# Altium schematic symbol library BRT_Components.SchLib: 323 symbols (part 2 of 4)
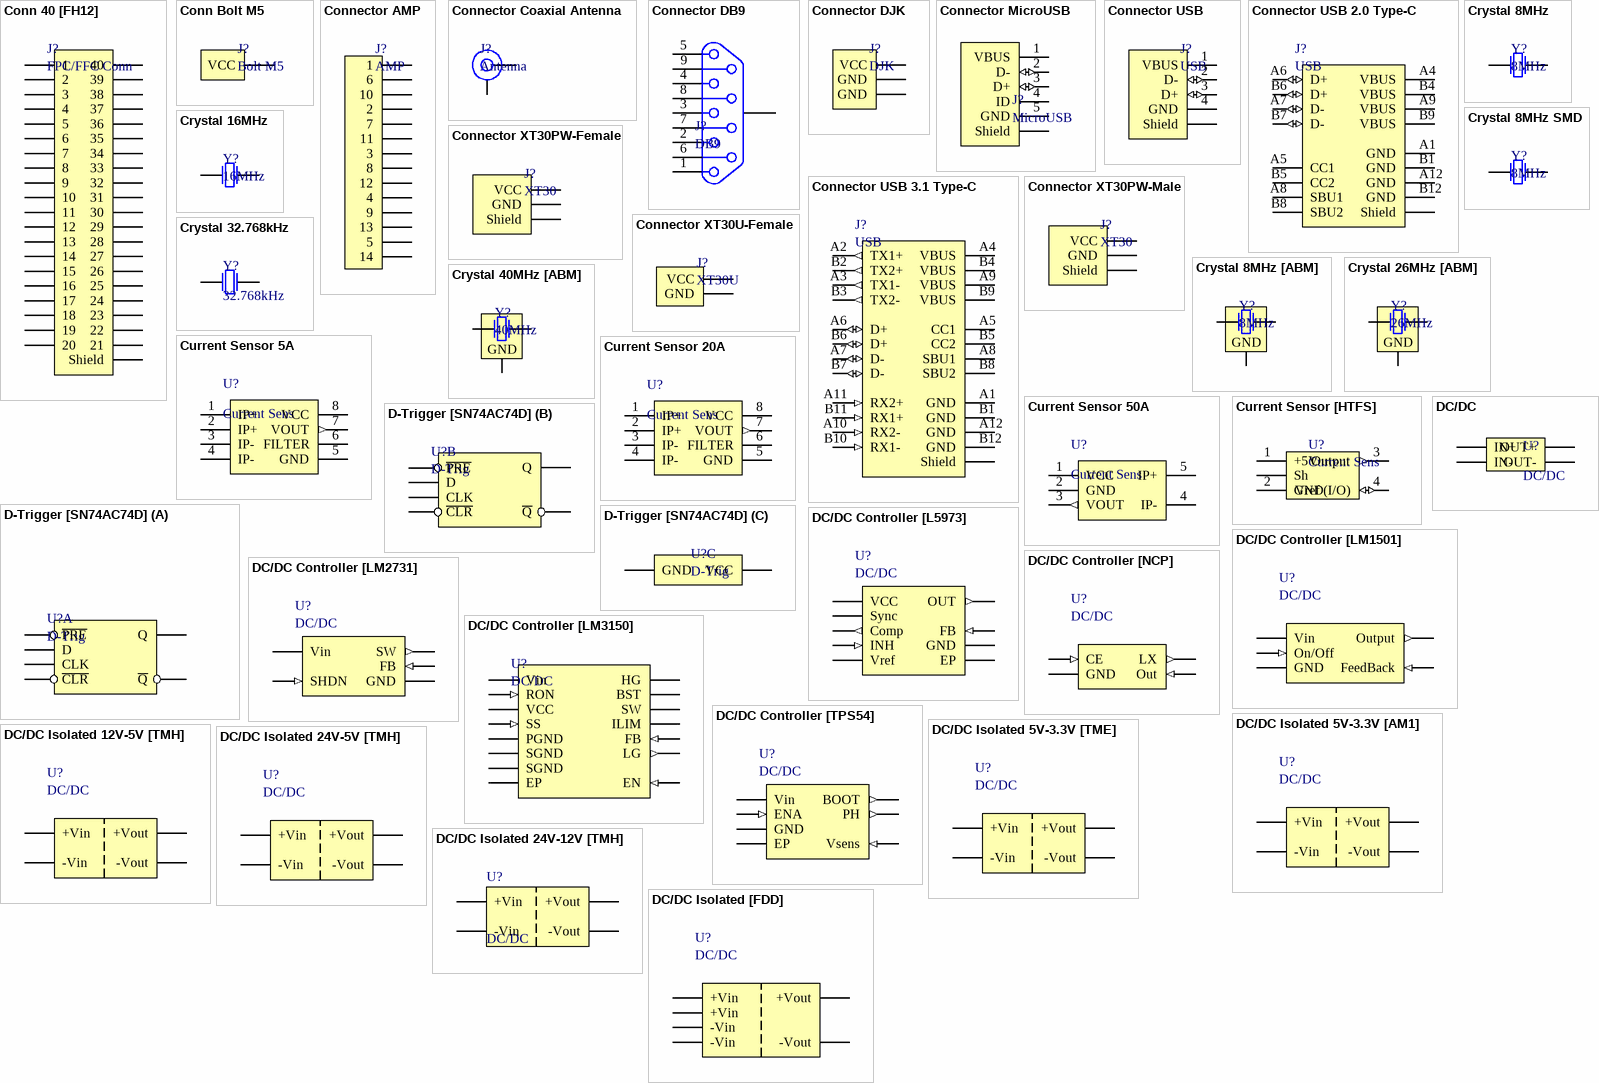
[diagram p9: symbols Conn 40 [FH12] to DC/DC Isolated [FDD]]

## DC/DC Controller [LM3150]
designator U?, comment DC/DC
A SIMPLE SWITCHER® synchronous Step-down Controller capable of providing up to 12A of output current in a typical application. Operating with an input voltage range of 6V to 42V, the LM3150 features an adjustable output voltage down to 0.6V; Manufacturer: Texas Instruments; Part Number: LM3150MH/NOPB; ComponentLink1Description: Chip&Dip; ComponentLink1URL: https://www.chipdip.ru/product/lm3150mh-nopb; ComponentLink2Description: DataSheet; ComponentLink2URL: https://static.chipdip.ru/lib/029/DOC001029258.pdf; Type: IC
footprint HTSSOP-14
pins: 1 VCC (power) "Supply Voltage for FET Drivers", 2 Vin (power) "Input Supply Voltage", 3 EN (in) "Enable", 4 FB (in) "Feedback", 5 SGND (power) "Signal Ground", 6 SS (in) "Soft Start", 7 RON (in) "On-Time Control", 8 ILIM "Current Limit", 9 SGND (power) "Signal Ground", 10 SW "Swich Node", 11 HG "High-Side Gate Drive", 12 BST (power) "Connection for Bootstrap Capicator", 13 LG (out) "Low-Side Gate Drive", 14 PGND (power) "Power Ground", A EP (power) "Signal Ground"

## DC/DC Controller [NCP]
designator U?, comment DC/DC
The NCP1402 series are monolithic micropower step−up DC to DCconverter that are specially designed for powering portable equipmentfrom  one  or  two  cell  battery  packs.; Manufacturer: ON Semiconductor; Part Number: NCP1402SN50T1G; ComponentLink1Description: Chip&Dip; ComponentLink1URL: https://www.chipdip.ru/product/ncp1402sn50t1g; ComponentLink2Description: DataSheet; ComponentLink2URL: https://static.chipdip.ru/lib/080/DOC001080266.pdf; Type: IC
footprint SOT-23-5
pins: 1 CE (in), 2 Out (in), 4 GND (power), 5 LX (out)

## DC/DC Controller [TPS54]
designator U?, comment DC/DC
The TPS5450 is  a  high-output-current PWM converter that integrates a low-resistance, high-side N-channel MOSFET; Manufacturer: Texas Instruments; Part Number: TPS5450DDAR; ComponentLink1Description: Chip&Dip; ComponentLink1URL: https://www.chipdip.ru/product/tps5450ddar-2; ComponentLink2Description: DataSheet; ComponentLink2URL: https://static.chipdip.ru/lib/787/DOC004787015.pdf; Type: IC
footprint HSOP-8
pins: 1 BOOT (out), 4 Vsens (in), 5 ENA (in), 6 GND (power), 7 Vin (power), 8 PH (out), A EP (power)

## DC/DC Isolated 5V-3.3V [AM1]
designator U?, comment DC/DC
Operating temperature -40oC to + 85oC. Regulated output voltage. Input / Output Isolation 1000 & 3000VDC. Low ripple and noise. Pin compatible with multiple manufacturers. High efficiency up to 70%. 7 pin SIP package; Manufacturer: Aimtec; Part Number: AM1DR-0503SZ; ComponentLink1Description: Chip&Dip; ComponentLink1URL: https://www.chipdip.ru/product/am1dr-0503sz; ComponentLink2Description: DataSheet; ComponentLink2URL: https://static.chipdip.ru/lib/011/DOC004011281.pdf; Type: IC
footprint SIP7
pins: 1 +Vin (power), 2 -Vin (power), 4 -Vout (power), 6 +Vout (power)

## DC/DC Isolated 5V-3.3V [TME]
designator U?, comment DC/DC
The  TME  series  is  a  range  of  sub-miniature,  isolated  DC/DC-converters  in  a  SIP-package, which requires only 0.7 cm2 of board space. They provide a cost effective solution to generate supplementary, isolated voltages. Full SMD-design and a 100% production test of parameters ensure a high reliability of this product.; Manufacturer: Traco Power; Part Number: TME0503S; ComponentLink1Description: Chip&Dip; ComponentLink1URL: https://www.chipdip.ru/product/tme-0503s; ComponentLink2Description: DataSheet; ComponentLink2URL: https://static.chipdip.ru/lib/005/DOC001005240.pdf; Type: IC
footprint SIP4
pins: 1 -Vin (power), 2 +Vin (power), 3 -Vout (power), 4 +Vout (power)

## DC/DC Isolated 12V-5V [TMH]
designator U?, comment DC/DC
The TMH series are ultra miniature, isolated 2 Watt DC/DC-converters in a Single-in-Line  package  (SIP); Manufacturer: Traco Power; Part Number: TMH1205S; ComponentLink1Description: Chip&Dip; ComponentLink1URL: https://www.chipdip.ru/product/tmh-1205s; ComponentLink2Description: DataSheet; ComponentLink2URL: https://static.chipdip.ru/lib/005/DOC001005854.pdf; Type: IC
footprint SIP7
pins: 1 +Vin (power), 2 -Vin (power), 4 -Vout (power), 6 +Vout (power)

## DC/DC Isolated 24V-5V [TMH]
designator U?, comment DC/DC
The TMH series are ultra miniature, isolated 2 Watt DC/DC-converters in a Single-in-Line  package  (SIP); Manufacturer: Traco Power; Part Number: TMH2405S; ComponentLink1Description: Chip&Dip; ComponentLink1URL: https://www.chipdip.ru/product/tmh-2405s; ComponentLink2Description: DataSheet; ComponentLink2URL: https://static.chipdip.ru/lib/005/DOC001005854.pdf; Type: IC
footprint SIP7
pins: 1 +Vin (power), 2 -Vin (power), 4 -Vout (power), 6 +Vout (power)

## DC/DC Isolated 24V-12V [TMH]
designator U?, comment DC/DC
The TMH series are ultra miniature, isolated 2 Watt DC/DC-converters in a Single-in-Line  package  (SIP); Manufacturer: Traco Power; Part Number: TMH2412S; Input Voltage: 24; Output Voltage: 12; ComponentLink1Description: Chip&Dip; ComponentLink1URL: https://www.chipdip.ru/product/tmv2412s; ComponentLink2Description: DataSheet; ComponentLink2URL: https://static.chipdip.ru/lib/005/DOC001005854.pdf; Type: IC
footprint SIP7
pins: 1 +Vin (power), 2 -Vin (power), 4 -Vout (power), 6 +Vout (power)

## DC/DC Isolated [FDD]
designator U?, comment DC/DC
DC - DC CONVERTER2 ~ 3W  SINGLE OUTPUT; Manufacturer: Chinfa Electronics; Part Number: FDD03-05S4; ComponentLink1Description: Chip&Dip; ComponentLink1URL: https://www.chipdip.ru/product/fdd03-05s4; ComponentLink2Description: DataSheet; ComponentLink2URL: https://static.chipdip.ru/lib/552/DOC000552732.pdf; Type: IC
footprint DIP24 DC-DC FDD03
pins: 2 -Vin (power), 3 -Vin (power), 14 +Vout (power), 16 -Vout (power), 22 +Vin (power), 23 +Vin (power)

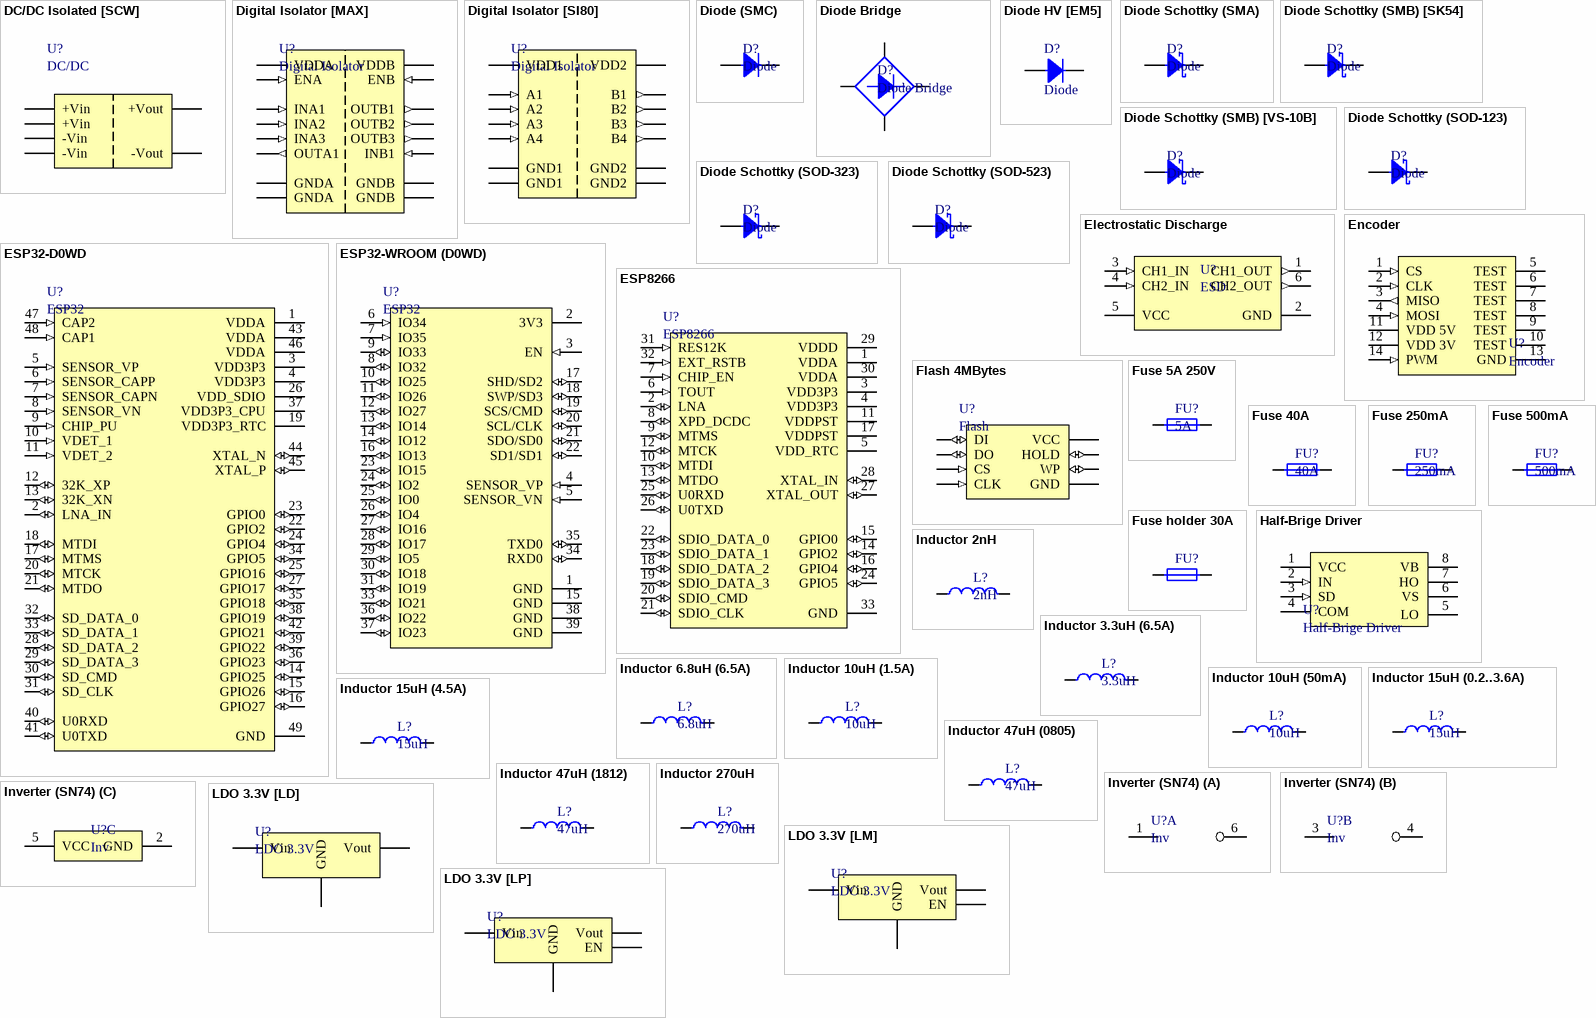
[diagram p4: symbols DC/DC Isolated [SCW] to LDO 3.3V [LP]]

## DC/DC Isolated [SCW]
designator U?, comment DC/DC
1000VDC I/O isolation, Protections: Short circuit / Overload, 100% burn-in test; Manufacturer: MEAN WELL; Part Number: SCW03A-05; ComponentLink1Description: Chip&Dip; ComponentLink1URL: https://www.chipdip.ru/product/scw03a-05; ComponentLink2Description: DataSheet; ComponentLink2URL: https://static.chipdip.ru/lib/149/DOC003149337.pdf; Type: IC
footprint DIP24 DC-DC SCW
pins: 2 -Vin (power), 3 -Vin (power), 14 +Vout (power), 16 -Vout (power), 22 +Vin (power), 23 +Vin (power)

## Digital Isolator [MAX]
designator U?, comment Digital Isolator
4-channel,  2.75kVRMS  and  3.75kVRMS  digital  isolator; Manufacturer: Maxim Semiconductor; Part Number: MAX14931EASE+; ComponentLink1Description: Chip&Dip; ComponentLink1URL: https://www.chipdip.ru/product/max14931ease; ComponentLink2Description: DataSheet; ComponentLink2URL: https://datasheets.maximintegrated.com/en/ds/MAX14130-MAX14932.pdf; Type: IC
footprint SOIC-16
pins: 1 VDDA (power), 2 GNDA (power), 3 INA1 (in), 4 INA2 (in), 5 INA3 (in), 6 OUTA1 (out), 7 ENA (in), 8 GNDA (power), 9 GNDB (power), 10 ENB (in), 11 INB1 (in), 12 OUTB3 (out), 13 OUTB2 (out), 14 OUTB1 (out), 15 GNDB (power), 16 VDDB (power)

## Digital Isolator [SI80]
designator U?, comment Digital Isolator
Silicon  Lab's  family  of  low-power  digital  isolators  are  CMOS  devicesoffering substantial data rate, propagation delay, power, size, reliability,and external BOM advantages over legacy isolation technologies.; Manufacturer: Silicon Laboratories; Part Number: SI8045AA-B-IU; ComponentLink1Description: Chip&Dip; ComponentLink1URL: https://www.chipdip.ru/product/si8045aa-b-iu; ComponentLink2Description: DataSheet; ComponentLink2URL: https://static6.arrow.com/aropdfconversion/a78c70b03c1ab78fff2102d98b369cf2ccbf4a39/si80xx-1kv.pdf; Type: IC
footprint QSOP-16
pins: 1 VDD1 (power), 2 GND1 (power), 3 A1 (in), 4 A2 (in), 5 A3 (in), 6 A4 (in), 8 GND1 (power), 9 GND2 (power), 11 B4 (out), 12 B3 (out), 13 B2 (out), 14 B1 (out), 15 GND2 (power), 16 VDD2 (power)

## Diode (SMC)
designator D?, comment Diode
3A 50V, (DO-214AB/SMC); Part Number: GS3A; Manufacturer: Yangzhou Yangjie Electronic Technology; Type: Diode; ComponentLink1Description: DataSheet; ComponentLink1URL: https://static.chipdip.ru/lib/152/DOC001152906.pdf; ComponentLink2Description: Chip&Dip; ComponentLink2URL: https://www.chipdip.ru/product/gs3a
footprint DO-214AB(SMC)
pins: 1, 2

## Diode Bridge
designator D?
4A 400V; Part Number: GBL04-E3/51; Manufacturer: Vishay; Type: Diode; ComponentLink1Description: DataSheet; ComponentLink1URL: https://static.chipdip.ru/lib/151/DOC000151040.pdf; ComponentLink2Description: Chip&Dip; ComponentLink2URL: https://www.chipdip.ru/product/gbl04
footprint Diode Bridge
pins: 1 "+", 2 "~", 3 "~", 4 "-"

## Diode HV [EM5]
designator D?, comment Diode
Highg voltage diode - 2000V; Part Number: EM518; Manufacturer: China; ComponentLink1Description: ChipDip; ComponentLink1URL: https://www.chipdip.ru/product/em518; ComponentLink2Description: Datasheet; ComponentLink2URL: https://static.chipdip.ru/lib/004/DOC001004767.pdf; Type: Diode
footprint DO-41
pins: 1, 2

## Diode Schottky (SMA)
designator D?, comment Diode
Diode Schottky 3A 40V; Part Number: B340A-E3/61T; Manufacturer: Vishay; Type: Diode; ComponentLink1Description: DataSheet; ComponentLink1URL: https://static.chipdip.ru/lib/652/DOC001652710.pdf; ComponentLink2Description: Chip&Dip; ComponentLink2URL: https://www.chipdip.ru/product/b340a-e3-61t-2
footprint SMA
pins: 1, 2

## Diode Schottky (SMB) [SK54]
designator D?, comment Diode
Diode Schottky 5A 40V; Part Number: SK54; Manufacturer: Diotec Semiconductor; Type: Diode; ComponentLink1Description: DataSheet; ComponentLink1URL: https://static.chipdip.ru/lib/092/DOC001092363.pdf; ComponentLink2Description: Chip&Dip; ComponentLink2URL: https://www.chipdip.ru/product/sk54
footprint SMB
pins: 1, 2

## Diode Schottky (SMB) [VS-10B]
designator D?, comment Diode
Diode Schottky 1A 100V; Part Number: VS-10BQ100-M3/5BT; Manufacturer: Vishay; Type: Diode; ComponentLink1Description: DataSheet; ComponentLink1URL: http://www.farnell.com/datasheets/2119778.pdf; ComponentLink2Description: Chip&Dip; ComponentLink2URL: https://www.chipdip.ru/product/10bq100?from=suggest_product
footprint SMB
pins: 1, 2

## Diode Schottky (SOD-123)
designator D?, comment Diode
0.5 A, Low Forward Voltage less than 385 mV, 400 mW Power Dissipation Package; Part Number: MBR0520L; Manufacturer: ON Semiconductor; Type: Diode; ComponentLink1Description: DataSheet; ComponentLink1URL: http://www.farnell.com/datasheets/1875336.pdf; ComponentLink2Description: Chip&Dip; ComponentLink2URL: https://www.chipdip.ru/product/mbr0520l
footprint sod-123
pins: 1, 2

## Diode Schottky (SOD-323)
designator D?, comment Diode
Diode Schottky 0.2A 30V; Part Number: BAT54HT1G; Manufacturer: ON Semiconductor; Type: Diode; ComponentLink1Description: DataSheet; ComponentLink1URL: http://www.farnell.com/datasheets/2251626.pdf; ComponentLink2Description: Chip&Dip; ComponentLink2URL: https://www.chipdip.ru/product/bat54ht1g-ons
footprint sod-323
pins: 1, 2

## Diode Schottky (SOD-523)
designator D?, comment Diode
Schottky Barrier Diodes, 200mA to 500mA; Part Number: 1PS79SB30,115; Manufacturer: Nexperia; Type: Diode; ComponentLink1Description: DataSheet; ComponentLink1URL: https://static.chipdip.ru/lib/583/DOC001583065.pdf; ComponentLink2Description: Chip&Dip; ComponentLink2URL: https://www.chipdip.ru/product/1ps79sb30.115
footprint SOD-523
pins: 1, 2

## Electrostatic Discharge
designator U?, comment ESD
2-Channel Ultra-Low Clamp Voltage ESD [TPD2S017DBVR]; Manufacturer: Texas Instruments; Part Number: TPD2S017DBVR; Type: IC; ComponentLink1Description: DataSheet; ComponentLink1URL: https://www.ti.com/lit/ds/symlink/tpd2s017.pdf?ts=1605859658409&ref_url=https%253A%252F%252Fwww.ti.com%252Fproduct%252FTPD2S017%253Futm_source%253Dgoogle%2526utm_medium%253Dcpc%2526utm_campaign%253Dapp-null-null-GPN_EN-cpc-pf-google-eu%2526utm_content%253DTPD2S017%2526ds_k%253DTPD2S017%2526DCM%253Dyes%2526gclid%253DCjwKCAiA7939BRBMEiwA-hX5J1NFHP2TP8cbp9bs_j1u611XDsMKD_GIosLsJ5HnTqvzEnKmAgZ7qBoCjZ0QAvD_BwE%2526gclsrc%253Daw.ds; ComponentLink2Description: Chip&Dip; ComponentLink2URL: https://www.chipdip.ru/product0/8002872230
footprint SOT236
pins: 1 CH1_OUT (out), 2 GND (power), 3 CH1_IN (in), 4 CH2_IN (in), 5 VCC (power), 6 CH2_OUT (out)

## Encoder
designator U?
Magnetic Rotary Encoder; Part Number: AS5048A; Manufacturer: ams; ComponentLink1Description: DataSheet; ComponentLink1URL: https://www.mouser.com/ds/2/588/AS5048_DS000298_3-00-522551.pdf; Type: IC
footprint TSSOP-14
pins: 1 CS (in), 2 CLK (in), 3 MISO (out), 4 MOSI (in), 5 TEST (power), 6 TEST (power), 7 TEST (power), 8 TEST (power), 9 TEST (power), 10 TEST (power), 11 VDD 5V (power), 12 VDD 3V (power), 13 GND (power), 14 PWM (in)

## ESP32-D0WD
designator U?, comment ESP32
ESP32 is a single 2.4 GHz Wi-Fi-and-Bluetooth combo chip designed with the TSMC ultra-low-power 40 nmtechnology. It is designed to achieve the best power and RF performance, showing robustness, versatility andreliability in a wide variety of applications and power scenarios.; Part Number: ESP32-D0WD; Manufacturer: Espressif Systems; ComponentLink1Description: Chip&Dip; ComponentLink1URL: https://www.chipdip.ru/product1/8001784100; ComponentLink2Description: DataSheet; ComponentLink2URL: https://ru.mouser.com/datasheet/2/891/esp32_datasheet_en-1223853.pdf; Type: IC
footprint QFN-48 5x5
pins: 1 VDDA (power) "Analog power supply (2.3 V – 3.6 V)", 2 LNA_IN (io) "RF input and output", 3 VDD3P3 (power) "Analog power supply (2.3 V – 3.6 V)", 4 VDD3P3 (power) "Analog power supply (2.3 V – 3.6 V)", 5 SENSOR_VP (in) "GPIO36, ADC1_CH0,  RTC_GPIO0", 6 SENSOR_CAPP (in) "GPIO37, ADC1_CH1,  RTC_GPIO1", 7 SENSOR_CAPN (in) "GPIO38, ADC1_CH2,  RTC_GPIO2", 8 SENSOR_VN (in) "GPIO39, ADC1_CH3,  RTC_GPIO3", 9 CHIP_PU (in) "High: On; enables the chipLow: Off; the chip powers offNote: Do not leave the CHIP_PU pin floating.", 10 VDET_1 (in) "GPIO34, ADC1_CH6,  RTC_GPIO4", 11 VDET_2 (in) "GPIO35, ADC1_CH7,  RTC_GPIO5", 12 32K_XP (io) "GPIO32, ADC1_CH4,  RTC_GPIO9,  TOUCH9,  32K_XP (32.768 kHz crystal oscillator input)", 13 32K_XN (io) "GPIO33, ADC1_CH5,  RTC_GPIO8,  TOUCH8,  32K_XN (32.768 kHz crystal oscillator output)", 14 GPIO25 (io) "GPIO25, ADC2_CH8,  RTC_GPIO6,  DAC_1,   EMAC_RXD0", 15 GPIO26 (io) "GPIO26, ADC2_CH9,  RTC_GPIO7,  DAC_2,   EMAC_RXD1", 16 GPIO27 (io) "GPIO27, ADC2_CH7,  RTC_GPIO17, TOUCH7,  EMAC_RX_DV", 17 MTMS (io) "GPIO14, ADC2_CH6,  RTC_GPIO16, TOUCH6,  EMAC_TXD2,  HSPICLK,  HS2_CLK,  SD_CLK,  MTMS", 18 MTDI (io) "GPIO12, ADC2_CH5,  RTC_GPIO15, TOUCH5,  EMAC_TXD3,  HSPIQ,    HS2_DATA2, SD_DATA2, MTDI", 19 VDD3P3_RTC (power) "Input power supply for RTC IO (2.3 V – 3.6 V)", 20 MTCK (io) "GPIO13, ADC2_CH4,  RTC_GPIO14, TOUCH4,  EMAC_RX_ER, HSPID,    HS2_DATA3, SD_DATA3, MTCK", 21 MTDO (io) "GPIO15, ADC2_CH3,  RTC_GPIO13, TOUCH3,  EMAC_RXD3,  HSPICS0,  HS2_CMD,  SD_CMD,  MTDO", 22 GPIO2 (io) "GPIO2,  ADC2_CH2,  RTC_GPIO12, TOUCH2,HSPIWP,  HS2_DATA0, SD_DATA0", 23 GPIO0 (io) "GPIO0,  ADC2_CH1,  RTC_GPIO11, TOUCH1,  EMAC_TX_CLK,CLK_OUT1", 24 GPIO4 (io) "GPIO4,  ADC2_CH0,  RTC_GPIO10, TOUCH0,  EMAC_TX_ER, HSPIHD,  HS2_DATA1, SD_DATA1", 25 GPIO16 (io) "GPIO16, HS1_DATA4,  U2RXD,EMAC_CLK_OUT", 26 VDD_SDIO (power) "Output power supply: 1.8 V or the same voltage as VDD3P3_RTC", 27 GPIO17 (io) "GPIO17, HS1_DATA5,  U2TXD,EMAC_CLK_OUT_180", 28 SD_DATA_2 (io) "GPIO9,  HS1_DATA2,  U1RXD,SD_DATA2, SPIHD", 29 SD_DATA_3 (io) "GPIO10, HS1_DATA3,  U1TXD,SD_DATA3, SPIWP", 30 SD_CMD (io) "GPIO11, HS1_CMD,   U1RTS,SD_CMD,  SPICS0", 31 SD_CLK (io) "GPIO6,  HS1_CLK,    U1CTS,SD_CLK,  SPICLK", 32 SD_DATA_0 (io) "GPIO7,  HS1_DATA0,  U2RTS,SD_DATA0, SPIQ", 33 SD_DATA_1 (io) "GPIO8,  HS1_DATA1,  U2CTS,SD_DATA1, SPID", 34 GPIO5 (io) "GPIO5,  HS1_DATA6,  VSPICS0,EMAC_RX_CLK", 35 GPIO18 (io) "GPIO18, HS1_DATA7,  VSPICLK", 36 GPIO23 (io) "GPIO23, HS1_STROBE, VSPID", 37 VDD3P3_CPU (power) "Input power supply for CPU IO (1.8 V – 3.6 V)", 38 GPIO19 (io) "GPIO19, U0CTS,VSPIQ,EMAC_TXD0", 39 GPIO22 (io) "GPIO22, U0RTS,VSPIWP,EMAC_TXD1", 40 U0RXD (io) "GPIO3,  U0RXD,CLK_OUT2", 41 U0TXD (io) "GPIO1,  U0TXD,CLK_OUT3,   EMAC_RXD2", 42 GPIO21 (io) "GPIO21,VSPIHD,EMAC_TX_EN", 43 VDDA (power) "Analog power supply (2.3 V – 3.6 V)", 44 XTAL_N (io) "External crystal output", 45 XTAL_P (io) "External crystal input", 46 VDDA (power) "Analog power supply (2.3 V – 3.6 V)", 47 CAP2 (in) "Connects to a 3 nF capacitor and 20 kΩresistor in parallel to CAP1", 48 CAP1 (in) "Connects to a 10 nF series capacitor to ground", 49 GND (power) "Ground"

## ESP32-WROOM (D0WD)
designator U?, comment ESP32
ESP32-WROOM-32 is a powerful, generic Wi-Fi+BT+BLE MCU module that targets a wide variety of applications,ranging from low-power sensor networks to the most demanding tasks, such as voice encoding, music streamingand MP3 decoding; Part Number: ESP32-WROOM-32U (16MB); Manufacturer: Espressif Systems; ComponentLink1Description: Mouser; ComponentLink1URL: https://ru.mouser.com/ProductDetail/Espressif-Systems/ESP32-WROOM-32U-16MB?qs=sGAEpiMZZMu3sxpa5v1qrsMD9%252BwKyL2mrwTVktUnYUY%3D; ComponentLink2Description: DataSheet; ComponentLink2URL: https://ru.mouser.com/datasheet/2/891/esp32-wroom-32d_esp32-wroom-32u_datasheet_en-1365844.pdf; Type: IC
footprint ESP32-WROOM-32U
pins: 1 GND (power), 2 3V3 (power), 3 EN (in) "Module-enable signal. Active high", 4 SENSOR_VP (in) "GPIO36, ADC1_CH0, RTC_GPIO0", 5 SENSOR_VN (in) "GPIO39, ADC1_CH3, RTC_GPIO3", 6 IO34 (in) "GPIO34, ADC1_CH6, RTC_GPIO4", 7 IO35 (in) "GPIO35, ADC1_CH7, RTC_GPIO5", 8 IO32 (io) "GPIO32, XTAL_32K_P (32.768 kHz crystal oscillator input), ADC1_CH4,TOUCH9, RTC_GPIO9", 9 IO33 (io) "GPIO33, XTAL_32K_N (32.768 kHz crystal oscillator output), ADC1_CH5,TOUCH8, RTC_GPIO8", 10 IO25 (io) "GPIO25, DAC_1, ADC2_CH8, RTC_GPIO6, EMAC_RXD0", 11 IO26 (io) "GPIO26, DAC_2, ADC2_CH9, RTC_GPIO7, EMAC_RXD1", 12 IO27 (io) "GPIO27, ADC2_CH7, TOUCH7, RTC_GPIO17, EMAC_RX_DV", 13 IO14 (io) "GPIO14, ADC2_CH6, TOUCH6, RTC_GPIO16, MTMS, HSPICLK, HS2_CLK,SD_CLK, EMAC_TXD2", 14 IO12 (io) "GPIO12, ADC2_CH5, TOUCH5, RTC_GPIO15, MTDI, HSPIQ, HS2_DATA2,SD_DATA2, EMAC_TXD3", 15 GND (power), 16 IO13 (io) "GPIO13, ADC2_CH4, TOUCH4, RTC_GPIO14, MTCK, HSPID, HS2_DATA3,SD_DATA3, EMAC_RX_ER", 17 SHD/SD2 (io) "GPIO9, SD_DATA2, SPIHD, HS1_DATA2, U1RXD", 18 SWP/SD3 (io) "GPIO10, SD_DATA3, SPIWP, HS1_DATA3, U1TXD", 19 SCS/CMD (io) "GPIO11, SD_CMD, SPICS0, HS1_CMD, U1RTS", 20 SCL/CLK (io) "GPIO6, SD_CLK, SPICLK, HS1_CLK, U1CTS", 21 SDO/SD0 (io) "GPIO7, SD_DATA0, SPIQ, HS1_DATA0, U2RTS", 22 SD1/SD1 (io) "GPIO8, SD_DATA1, SPID, HS1_DATA1, U2CTS", 23 IO15 (io) "GPIO15, ADC2_CH3, TOUCH3, MTDO, HSPICS0, RTC_GPIO13, HS2_CMD,SD_CMD, EMAC_RXD3", 24 IO2 (io) "GPIO2, ADC2_CH2, TOUCH2, RTC_GPIO12, HSPIWP, HS2_DATA0,SD_DATA0", 25 IO0 (io) "GPIO0, ADC2_CH1, TOUCH1, RTC_GPIO11, CLK_OUT1, EMAC_TX_CLK", 26 IO4 (io) "GPIO4, ADC2_CH0, TOUCH0, RTC_GPIO10, HSPIHD, HS2_DATA1,SD_DATA1, EMAC_TX_ER", 27 IO16 (io) "GPIO16, HS1_DATA4, U2RXD, EMAC_CLK_OUT", 28 IO17 (io) "GPIO17, HS1_DATA5, U2TXD, EMAC_CLK_OUT_180", 29 IO5 (io) "GPIO5, VSPICS0, HS1_DATA6, EMAC_RX_CLK", 30 IO18 (io) "GPIO18, VSPICLK, HS1_DATA7", 31 IO19 (io) "GPIO19, VSPIQ, U0CTS, EMAC_TXD0", 33 IO21 (io) "GPIO21, VSPIHD, EMAC_TX_EN", 34 RXD0 (io) "GPIO3, U0RXD, CLK_OUT2", 35 TXD0 (io) "GPIO1, U0TXD, CLK_OUT3, EMAC_RXD2", 36 IO22 (io) "GPIO22, VSPIWP, U0RTS, EMAC_TXD1", 37 IO23 (io) "GPIO23, VSPID, HS1_STROBE", 38 GND (power), 39 GND (power)

## ESP8266
designator U?
ESP8266EX delivers highly integrated Wi-Fi SoC solution to meet users’ continuous demands for efficient power usage, compact design and reliable performance in the Internet of Things industry; Manufacturer: Espressif Systems; ComponentLink1Description: Mouser; ComponentLink1URL: https://eu.mouser.com/ProductDetail/Espressif-Systems/ESP8266EX?qs=sGAEpiMZZMve4%2FbfQkoj%252BGif8WCprhV4ngk1mHM9Xjs%3D; ComponentLink2Description: DataSheet; ComponentLink2URL: https://eu.mouser.com/datasheet/2/891/0a-esp8266ex_datasheet_en-1223899.pdf; Part Number: ESP8266EX; Type: IC
footprint QFN-32
pins: 1 VDDA (power) "Analog Power 2.5 V ~ 3.6 V", 2 LNA (io) "RF antenna interface Chip output impedance = 39 + j6 Ω. It is suggested to retain the π-type matching network to match the antenna", 3 VDD3P3 (power) "Amplifier Power 2.5 V ~ 3.6 V", 4 VDD3P3 (power) "Amplifier Power 2.5 V ~ 3.6 V", 5 VDD_RTC (power) "NC (1.1 V)", 6 TOUT (in) "ADC pin. It can be used to test the power-supply voltage of VDD3P3 (Pin3 and Pin4) and the input power voltage of TOUT (Pin 6", 7 CHIP_EN (in) "Chip Enable High: On, chip works properly Low: Off, small current consumed", 8 XPD_DCDC (io) "Deep-sleep wakeup (need to be connected to EXT_RSTB); GPIO16", 9 MTMS (io) "GPIO 14; HSPI_CLK", 10 MTDI (io) "GPIO 12; HSPI_MISO", 11 VDDPST (power) "Digital/IO Power Supply (1.8 V ~ 3.6 V)", 12 MTCK (io) "GPIO 13; HSPI_MOSI; UART0_CTS", 13 MTDO (io) "GPIO 15; HSPI_CS; UART0_RTS", 14 GPIO2 (io) "UART TX during flash programming; GPIO2", 15 GPIO0 (io) "GPIO0; SPI_CS2", 16 GPIO4 (io), 17 VDDPST (power) "Digital/IO Power Supply (1.8 V ~ 3.6 V)", 18 SDIO_DATA_2 (io) "Connect to SD_D2 (Series R: 20 Ω); SPIHD; HSPIHD; GPIO9", 19 SDIO_DATA_3 (io) "Connect to SD_D3 (Series R: 200 Ω); SPIWP; HSPIWP; GPIO10", 20 SDIO_CMD (io) "Connect to SD_CMD (Series R: 200 Ω); SPI_CS0; GPIO11", 21 SDIO_CLK (io) "Connect to SD_CLK (Series R: 200 Ω); SPI_CLK; GPIO6", 22 SDIO_DATA_0 (io) "Connect to SD_D0 (Series R: 200 Ω); SPI_MISO; GPIO7", 23 SDIO_DATA_1 (io) "Connect to SD_D1 (Series R: 200 Ω); SPI_MOSI; GPIO8", 24 GPIO5 (io), 25 U0RXD (io) "UART Rx during flash programming; GPIO3", 26 U0TXD (io) "UART TX during flash programming; GPIO1; SPI_CS1", 27 XTAL_OUT (io) "Connect to crystal oscillator output, can be used to provide BT clock input", 28 XTAL_IN (io) "Connect to crystal oscillator input", 29 VDDD (power) "Analog Power 2.5 V ~ 3.6 V", 30 VDDA (power) "Analog Power 2.5 V ~ 3.6 V", 31 RES12K (in) "Serial connection with a 12 kΩ resistor and connect to the ground", 32 EXT_RSTB (in) "External reset signal (Low voltage level: active)", 33 GND (power)

## Flash 4MBytes
designator U?, comment Flash
Serial  Flash  memory providesa  storage  solution  for  systems  with  limited space,  pins  and  power.; Part Number: W25Q32BVSSIG; Manufacturer: Winbond Electronics; ComponentLink1Description: DataSheet; ComponentLink1URL: https://static.chipdip.ru/lib/081/DOC001081512.pdf; ComponentLink2Description: Chip&Dip; ComponentLink2URL: https://www.chipdip.ru/product/w25q32bvssig; Type: IC
footprint SOIC-8
pins: 1 CS (in) "Chip Select Input", 2 DO (io) "Data Output", 3 WP (io) "Write Protect Input", 4 GND (power), 5 DI (io) "Data Input", 6 CLK (in) "Serial Clock Input", 7 HOLD (io) "Hold Input", 8 VCC (power)

## Fuse 5A 250V
designator FU?, comment 5А
[179020.5]; Manufacturer: Siba; Type: Fuse; Part Number: 179020.5; ComponentLink1Description: Chip&Dip; ComponentLink1URL: https://www.chipdip.ru/product/siba-179020-5
footprint Fuse Glass
pins: 1, 2

## Fuse 40A
designator FU?, comment 40A
[MF-MSMF200-2]; Manufacturer: Bourns; Type: Fuse; Part Number: MF-MSMF200-2; ComponentLink1Description: Chip&Dip; ComponentLink1URL: https://www.chipdip.ru/product0/8001783899
footprint 1812 Fuse
pins: 1, 2

## Fuse 250mA
designator FU?, comment 250mA
[0679H0250-01]; Manufacturer: Bel Fuse; Type: Fuse; Part Number: 0679H0250-01; ComponentLink1Description: Chip&Dip; ComponentLink1URL: https://www.chipdip.ru/product0/8006358894; ComponentLink2Description: DataSheet; ComponentLink2URL: https://belfuse.com/resources/datasheets/circuitprotection/ds-cp-0679h-series.pdf
footprint BelFuse_0679H
pins: 1, 2

## Fuse 500mA
designator FU?, comment 500mA
[0679H0500-01]; Manufacturer: Bel Fuse; Type: Fuse; Part Number: 0679H0500-01; ComponentLink1Description: Chip&Dip; ComponentLink1URL: https://www.chipdip.ru/product0/8006370770; ComponentLink2Description: DataSheet; ComponentLink2URL: https://belfuse.com/resources/datasheets/circuitprotection/ds-cp-0679h-series.pdf
footprint BelFuse_0679H
pins: 1, 2

## Fuse holder 30A
designator FU?
Automotive fuse holder, 30A; Part number: 3557-2; Manufacturer: Keystone Electronics Corp; Type: Fuse; ComponentLink1Description: Datasheet; ComponentLink1URL: https://datasheet.octopart.com/3557-2-Keystone-datasheet-14434305.pdf; ComponentLink2Description: Mouser; ComponentLink2URL: https://ru.mouser.com/ProductDetail/Keystone-Electronics/3557-2?qs=cxy41lVAGV%2FfbyASjpXK1g%3D%3D
footprint FuseHolder (3557-2) (Automotive fuse holder)
pins: 1, 2

## Half-Brige Driver
designator U?
Driver 600V 0.6A 2-OUT Hi/Lo Side Half Brdg Inv/Non-Inv 8-Pin SOIC Tube; Part Number: IRS2104SPBF; Manufacturer: International Rectifier; ComponentLink1Description: DataSheet; ComponentLink1URL: https://static.chipdip.ru/lib/033/DOC001033366.pdf; ComponentLink2Description: Chip&Dip; ComponentLink2URL: https://www.chipdip.ru/product/irs2104s; Type: IC
footprint SOIC-8
pins: 1 VCC (power), 2 IN (in), 3 SD (in), 4 COM (power), 5 LO, 6 VS, 7 HO, 8 VB

## Inductor 2nH
designator L?, comment 2nH
0603, 5%; Part Number: LQG18HN8N2J00D; Manufacturer: Murata Manufacturing; Type: Inductor; ComponentLink1Description: DataSheet; ComponentLink1URL: https://static6.arrow.com/aropdfconversion/c1583adeb79d7b8ba7badcc32120e4a48424949a/product.pdf; ComponentLink2Description: Chip&Dip; ComponentLink2URL: https://www.chipdip.ru/product/lqg18hn8n2j
footprint 0603 Resistor
pins: 1, 2

## Inductor 3.3uH (6.5A)
designator L?, comment 3.3uH
3.3uH, 5.4x5.1x2, 6.5A; Part Number: SPM5020T-3R3M-LR; Manufacturer: TDK; Type: Inductor; ComponentLink1Description: DataSheet; ComponentLink1URL: https://static.chipdip.ru/lib/015/DOC004015227.pdf; ComponentLink2Description: Chip&Dip; ComponentLink2URL: https://www.chipdip.ru/product0/9000523845
footprint Inductor 5.4x5.1
pins: 1, 2

## Inductor 6.8uH (6.5A)
designator L?, comment 6.8uH
6.8 uH, 4.2 А, 20%, 5.4х5.1х2mm; Part Number: SPM5020T-6R8M-LR; Manufacturer: TDK; Type: Inductor; ComponentLink1Description: DataSheet; ComponentLink1URL: https://static.chipdip.ru/lib/015/DOC004015227.pdf; ComponentLink2Description: Chip&Dip; ComponentLink2URL: https://www.chipdip.ru/product0/9000523846
footprint Inductor 5.4x5.1
pins: 1, 2

## Inductor 10uH (1.5A)
designator L?, comment 10uH
10uH, D=5.8mm, 1450mA; Part Number: SDR0604-100ML; Manufacturer: Bourns; Type: Inductor; ComponentLink1Description: DataSheet; ComponentLink1URL: http://www.farnell.com/datasheets/1635216.pdf; ComponentLink2Description: Chip&Dip; ComponentLink2URL: https://www.chipdip.ru/product/sdr0604-100ml
footprint SDR
pins: 1, 2

## Inductor 10uH (50mA)
designator L?, comment 10uH
10uH, 0603; Part Number: LQM18FN100M00D; Manufacturer: Murata Manufacturing; Type: Inductor; ComponentLink1Description: DataSheet; ComponentLink1URL: http://www.farnell.com/datasheets/2575534.pdf; ComponentLink2Description: Chip&Dip; ComponentLink2URL: https://www.chipdip.ru/product1/8001782001?from=suggest_product
footprint 0603 Inductor
pins: 1, 2

## Inductor 15uH (0.2..3.6A)
designator L?, comment 15uH
15uH, 1.53A, 7X7; Part Number: B82472G6153M000; Manufacturer: Epcos; Type: Inductor; ComponentLink1Description: DataSheet; ComponentLink1URL: https://static.chipdip.ru/lib/972/DOC003972643.pdf; ComponentLink2Description: Chip&Dip; ComponentLink2URL: https://www.chipdip.ru/product/b82472g6153m000-15
footprint Inductor 7x7
pins: 1, 2

## Inductor 15uH (4.5A)
designator L?, comment 15uH
15uH, 12.8x12.8, 4.5A; Part Number: B82477G4153M; Manufacturer: Epcos; Type: Inductor; ComponentLink1Description: DataSheet; ComponentLink1URL: https://static.chipdip.ru/lib/009/DOC001009882.pdf; ComponentLink2Description: Chip&Dip; ComponentLink2URL: https://www.chipdip.ru/product/b82477g4153m
footprint Inductor 12.8 x 12.8 x 8.0
pins: 1, 2

## Inductor 47uH (0805)
designator L?, comment 47uH
20%; Part Number: MLZ2012M470WT000; Manufacturer: TDK; Type: Inductor; ComponentLink1Description: DataSheet; ComponentLink1URL: https://static.chipdip.ru/lib/492/DOC001492193.pdf; ComponentLink2Description: Chip&Dip; ComponentLink2URL: https://www.chipdip.ru/product/mlz2012m470wt000-47
footprint 0805 Resistor
pins: 1, 2

## Inductor 47uH (1812)
designator L?, comment 47uH
[CM453232-470KL]; Manufacturer: Bourns; Type: Inductor; ComponentLink1Description: DataSheet; ComponentLink1URL: http://www.farnell.com/datasheets/2277343.pdf; ComponentLink2Description: Chip&Dip; ComponentLink2URL: https://www.chipdip.ru/product/cm453232-470kl; Part Number: CM453232-470KL
footprint 1812 Inductor
pins: 1, 2

## Inductor 270uH
designator L?, comment 270uH
270 uH, 1210, 5%; Part Number: NLV32T-271J-EF; Manufacturer: TDK; Type: Inductor; ComponentLink1Description: DataSheet; ComponentLink1URL: https://static.chipdip.ru/lib/492/DOC001492199.pdf; ComponentLink2Description: Chip&Dip; ComponentLink2URL: https://www.chipdip.ru/product/nlv32t-271j-ef-270
footprint 1210 Inductor
pins: 1, 2

## Inverter (SN74)
designator U?, comment Inv
Dual inverter, 1.65-5.5V; Manufacturer: Texas Instruments; Part Number: SN74LVC2G04DBVR; ComponentLink1Description: Chip&Dip; ComponentLink1URL: https://www.chipdip.ru/product/sn74lvc2g04dbvr-2; ComponentLink2Description: DataSheet; ComponentLink2URL: https://static.chipdip.ru/lib/021/DOC001021810.pdf; Type: IC
footprint SOT236 (Footprint not found)
part A pins: 1 1A, 6 1Y
part B pins: 3 2А, 4 2Y
part C pins: 2 GND (power), 5 VCC (power)

## LDO 3.3V [LD]
designator U?, comment LDO 3.3V
LDO Regulator Pos 3.3V 1.3A 4-Pin(3+Tab) SOT-223 T/R; Part Number: LD1117S33CTR; Manufacturer: STMicroelectronics; ComponentLink1Description: DataSheet; ComponentLink1URL: https://static.chipdip.ru/lib/292/DOC000292513.pdf; ComponentLink2Description: Chip&Dip; ComponentLink2URL: https://www.chipdip.ru/product/ld1117s33ctr-2
footprint SOT-223
pins: 1 GND (power), 2 Vout (power), 3 Vin (power)

## LDO 3.3V [LM]
designator U?, comment LDO 3.3V
low-dropout linear regulator. There are devices designed specifically for battery-operated systems. Ground current is very small (50uA-Typ), that significantly extending battery life. Low power consumption and high accuracy is achieved through CMOS and programmable fuse technologies. Output voltage: 1.5V to 6.0V.; Part Number: LM8805SF5-3.3; Manufacturer: TAEJIN TECHNOLOGY; ComponentLink1Description: DataSheet; ComponentLink1URL: https://static.chipdip.ru/lib/138/DOC004138842.pdf; ComponentLink2Description: Chip&Dip; ComponentLink2URL: https://www.chipdip.ru/product/lm8805sf5-3.3
footprint SOT-23-5
pins: 1 Vin (power), 2 GND (power), 3 EN (power), 5 Vout (power)

## LDO 3.3V [LP]
designator U?, comment LDO 3.3V
Low-noise LDO that can supply up  to 250mA output curren. This device is  available with fixed output voltages from 1.2 V to 4.5 V in 25-mV steps; Part Number: LP5907MFX-3.3/NOPB; Manufacturer: Texas Instruments; ComponentLink1Description: DataSheet; ComponentLink1URL: https://static.chipdip.ru/lib/551/DOC001551778.pdf; ComponentLink2Description: Chip&Dip; ComponentLink2URL: https://www.chipdip.ru/product/lp5907mfx-3.3-nopb; ComponentLink3Description: Elitan; ComponentLink3URL: https://www.elitan.ru/price/item9999140
footprint SOT-23-5
pins: 1 Vin (power), 2 GND (power), 3 EN (power), 5 Vout (power)

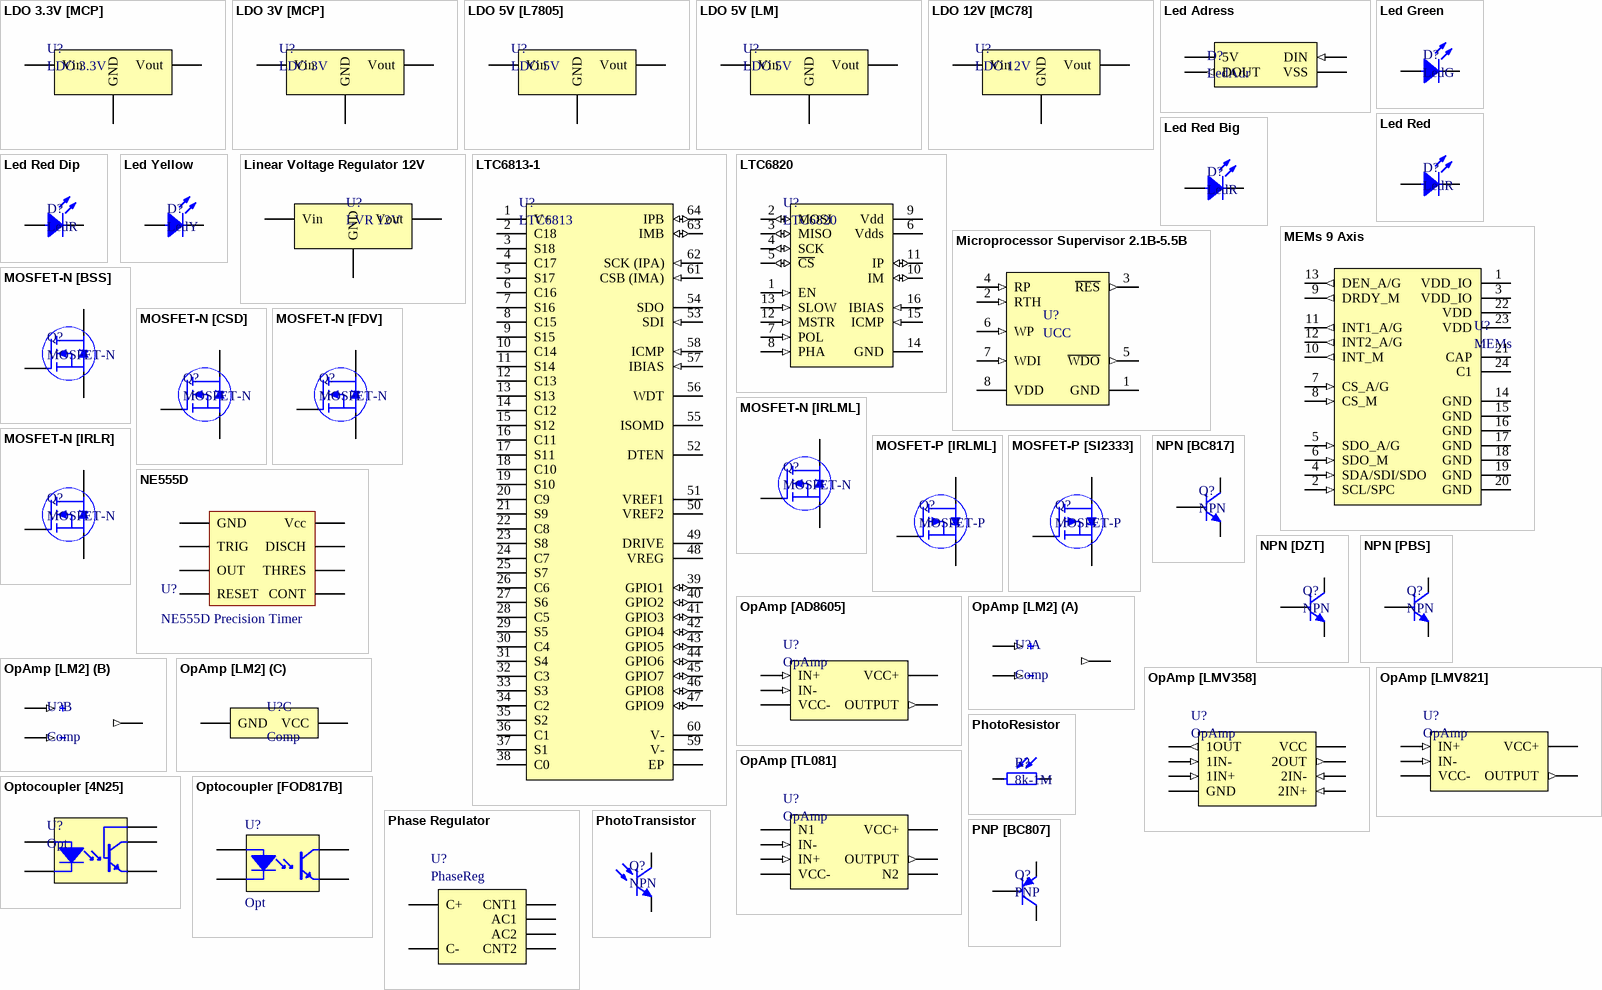
[diagram p5: symbols LDO 3.3V [MCP] to PNP [BC807]]

## LDO 3.3V [MCP]
designator U?, comment LDO 3.3V
A family of CMOS low dropout (LDO)voltage  regulators  that  can  deliver  up  to  250 mA  ofcurrent  while  consuming  only  1.6 μA  of  quiescentcurrent (typical). The input operating range is specifiedfrom 2.3V to 6.0V; Part Number: MCP1700T-3302E/TT; Manufacturer: Microchip; ComponentLink1Description: DataSheet; ComponentLink1URL: https://static.chipdip.ru/lib/276/DOC000276804.pdf; ComponentLink2Description: Chip&Dip; ComponentLink2URL: https://www.chipdip.ru/product/mcp1700t-3302e-tt; ComponentLink3Description: Elitan; ComponentLink3URL: https://www.elitan.ru/price/item595361
footprint SOT-23
pins: 1 GND (power), 2 Vout (power), 3 Vin (power)

## LDO 3V [MCP]
designator U?, comment LDO 3V
MCP1702 Low Dropout Voltage Regulator. The input operating range is specifiedfrom 2.7V to 13.2V; Part Number: MCP1702T-3002E/CB; Manufacturer: Microchip; ComponentLink1Description: DataSheet; ComponentLink1URL: https://static.chipdip.ru/lib/986/DOC003986671.pdf; ComponentLink2Description: Chip&Dip; ComponentLink2URL: https://www.chipdip.ru/product/mcp1702t-3002e-cb-microchip
footprint SOT-23
pins: 1 GND (power), 2 Vout (power), 3 Vin (power)

## LDO 5V [L7805]
designator U?, comment LDO 5V
L78 Series Linear Voltage Regulator; Part Number: L7805CDT-TR; Manufacturer: ST Microelectronics; ComponentLink1Description: DataSheet; ComponentLink1URL: http://www.farnell.com/datasheets/2307057.pdf; ComponentLink2Description: Chip&Dip; ComponentLink2URL: https://www.chipdip.ru/product/l7805cdt-tr
footprint D-Pak (TO-252AA)
pins: 1 Vin (power), 2 GND (power), 3 Vout (power)

## LDO 5V [LM]
designator U?, comment LDO 5V
A low dropout Linear Regulator with a dropout of 5V at 800mA of load current; Part Number: LM1117IMPX-5.0/NOPB; Manufacturer: Texas Instruments; ComponentLink1Description: DataSheet; ComponentLink1URL: https://static.chipdip.ru/lib/276/DOC000276680.pdf; ComponentLink2Description: Chip&Dip; ComponentLink2URL: https://www.chipdip.ru/product/lm1117impx-5.0-nopb
footprint SOT-223
pins: 1 GND (power), 2 Vout (power), 3 Vin (power)

## LDO 12V [MC78]
designator U?, comment LDO 12V
The ON Semiconductor MC78M00/MC78M00A linear voltage regulator is a robust device that combines Internal current limiting, thermal shutdown and output transistor safe operating area protection. It can be used in many applications including local, on-card voltage regulation. Available in 5 V, 8 V, 12 V, 15 V, 18 V, 20 V and 24 V with an output current of up to 500 mA with used with a suitable heat sink.; Part Number: MC78M12BDTG; Manufacturer: ON Semiconductor; ComponentLink1Description: DataSheet; ComponentLink1URL: http://www.farnell.com/datasheets/2160658.pdf; ComponentLink2Description: Chip&Dip; ComponentLink2URL: https://www.chipdip.ru/product/mc78m12bdtg
footprint D-Pak (TO-252AA)
pins: 1 Vin (power), 2 GND (power), 3 Vout (power)

## Led Adress
designator D?, comment LedAdr
[WS2812B]; Manufacturer: Shenzhen Shining Opto-Electronic; Type: Diode; Part Number: WS2812B; ComponentLink1Description: DataSheet; ComponentLink1URL: https://static.chipdip.ru/lib/554/DOC001554925.pdf; ComponentLink2Description: Chip&Dip; ComponentLink2URL: https://www.chipdip.ru/product/ws2812b
footprint WS2812B
pins: 1 5V (power), 2 DOUT (out), 3 VSS (power), 4 DIN (in)

## Led Green
designator D?, comment LedG
Led Green SMD 1608, 120°, 525nM; Part Number: TO-1608BC-PG; Manufacturer: Taiwan Oasis Technology; Type: Diode; ComponentLink1Description: Chip&Dip; ComponentLink1URL: https://www.chipdip.ru/product/to-1608bc-pg
footprint 0805 LED
pins: 1, 2

## Led Red
designator D?, comment LedR
SMD 1608, 112mcd, 120°, 630nM (Ultra Bright Red); Part Number: TO-1608BC-MRE; Manufacturer: Taiwan Oasis Technology; Type: Diode; ComponentLink1Description: Chip&Dip; ComponentLink1URL: https://www.chipdip.ru/product/to-1608bc-mre
footprint 0805 LED
pins: 1, 2

## Led Red Big
designator D?, comment LedR
Led Red, SMD 3228, 120°, 630nM (Ultra Bright Red); Part Number: TO-3228BC-MRG; Manufacturer: Taiwan Oasis Technology; Type: Diode; ComponentLink1Description: Chip&Dip; ComponentLink1URL: https://www.chipdip.ru/product/to-3228bc-mrg
footprint LED
pins: 1, 2

## Led Red Dip
designator D?, comment LedR
3mm ROUND TYPE LED, Standard Brightness; Part Number: GNL-3012HD; Manufacturer: G-nor Electronics; Type: Diode; ComponentLink1Description: DataSheet; ComponentLink1URL: *https://static.chipdip.ru/lib/773/DOC002773602.pdf; ComponentLink2Description: Chip&Dip; ComponentLink2URL: https://www.chipdip.ru/product/gnl-3012hd
footprint LED Type 3mm (THT, LED-3mm, 2pin- Body 4.15mm(max))
pins: 1, 2

## Led Yellow
designator D?, comment LedY
SMD 1608, 247mcd, 120°, 592nM (High Bright Yellow); Part Number: TO-1608BC-MYF; Manufacturer: Taiwan Oasis Technology; Type: Diode; ComponentLink1Description: Chip&Dip; ComponentLink1URL: https://www.chipdip.ru/product/to-1608bc-myf
footprint 0805 LED
pins: 1, 2

## Linear Voltage Regulator 12V
designator U?, comment LVR 12V
These regulators can provide local on-card regulation, eliminating the distribution problems associated with single point regulation.; Part Number: L7812CD2T-TR; Manufacturer: STMicroelectronics; ComponentLink1Description: Chip&Dip; ComponentLink1URL: https://www.chipdip.ru/product/l7812cd2t-tr; ComponentLink2Description: DataSheet; ComponentLink2URL: https://static.chipdip.ru/lib/804/DOC000804929.pdf
footprint D2-PAK (TO-262)
pins: 1 Vin (power), 2 GND (power), 3 Vout (power)

## LTC6813-1
designator U?, comment LTC6813
18-Cell Battery Monitor; Part Number: LTC6813ILWE-1; Manufacturer: Analog Devices Inc.; Type: IC; ComponentLink1Description: DigiKey; ComponentLink1URL: https://www.digikey.com/product-detail/en/linear-technology-analog-devices/LTC6813ILWE-1-3ZZPBF/LTC6813ILWE-1-3ZZPBF-ND/8555413?utm_source=505&utm_medium=supplier&utm_campaign=buynow
footprint LQFP64_EP
pins: 1 V+, 2 C18, 3 S18, 4 C17, 5 S17, 6 C16, 7 S16, 8 C15, 9 S15, 10 C14, 11 S14, 12 C13, 13 S13, 14 C12, 15 S12, 16 C11, 17 S11, 18 C10, 19 S10, 20 C9, 21 S9, 22 C8, 23 S8, 24 C7, 25 S7, 26 C6, 27 S6, 28 C5, 29 S5, 30 C4, 31 S4, 32 C3, 33 S3, 34 C2, 35 S2, 36 C1, 37 S1, 38 C0, 39 GPIO1 (io), 40 GPIO2 (io), 41 GPIO3 (io), 42 GPIO4 (io), 43 GPIO5 (io), 44 GPIO6 (io), 45 GPIO7 (io), 46 GPIO8 (io), 47 GPIO9 (io), 48 VREG, 49 DRIVE, 50 VREF2, 51 VREF1, 52 DTEN, 53 SDI (in), 54 SDO, 55 ISOMD, 56 WDT, 57 IBIAS (in), 58 ICMP (in), 59 V- (power), 60 V- (power), 61 CSB (IMA) (in), 62 SCK (IPA) (in), 63 IMB (io), 64 IPB (io), A EP (power)

## LTC6820
designator U?
Isolated Communications Interface Interface; Part Number: LTC6820HMS; Manufacturer: Analog Devices Inc.; Type: IC; ComponentLink1Description: DigiKey; ComponentLink1URL: https://www.digikey.com/en/products/detail/analog-devices-inc/LTC6820HMS-PBF/3838551?s=N4IgTCBcDaIDIBUDCA2AHGADACQLIGUBiABQCEAxEAXQF8g; ComponentLink2Description: DataSheet; ComponentLink2URL: https://www.analog.com/media/en/technical-documentation/data-sheets/LTC6820.pdf
footprint MSOP-16
pins: 1 EN (in), 2 MOSI (io), 3 MISO (io), 4 SCK (io), 5 ~{CS} (io), 6 Vdds (power), 7 POL (in), 8 PHA (in), 9 Vdd (power), 10 IM (io), 11 IP (io), 12 MSTR (in), 13 SLOW (in), 14 GND (power), 15 ICMP (in), 16 IBIAS (in)

## MEMs 9 Axis
designator U?, comment MEMs
System-in-package featuring a 3D digital linear acceleration sensor, a 3D digital angular rate sensor, and a 3D digital magnetic sensor; Manufacturer: STMicroelectronics; Part Number: LSM9DS1TR; ComponentLink1Description: DataSheet; ComponentLink1URL: https://static.chipdip.ru/lib/427/DOC004427868.pdf; ComponentLink2Description: Chip&Dip; ComponentLink2URL: https://www.chipdip.ru/product/lsm9ds1tr; Type: IC
footprint LGA 3.5x3x1 mm 24-lead
pins: 1 VDD_IO (power) "Power supply for I/O pins", 2 SCL/SPC (in) "I2C serial clock (SCL) / SPI serial port clock (SPC)", 3 VDD_IO (power) "Power supply for I/O pins", 4 SDA/SDI/SDO (in) "I2C serial data (SDA); SPI serial data input (SDI); 3-wire interface serial data output (SDO)", 5 SDO_A/G (in) "SPI serial data output (SDO) for the accelerometer and gyroscopeI2C least significant bit of the device address (SA0) for the accelerometer and gyroscope", 6 SDO_M (in) "SPI serial data output (SDO) for the magnetometerI2C least significant bit of the device address (SA0) for the magnetometer", 7 CS_A/G (in) "SPI enable I2C/SPI mode selection for the accelerometer and gyroscope (1: SPI idle mode / I2C communication enabled; 0: SPI communication mode / I2C disabled)", 8 CS_M (in) "SPI enable I2C/SPI mode selection for the magnetometer (1: SPI idle mode / I2C communication enabled; 0: SPI communication mode / I2C disabled)", 9 DRDY_M (out) "Magnetic sensor data ready", 10 INT_M (out) "Magnetic sensor interrupt", 11 INT1_A/G (out) "Accelerometer and gyroscope interrupt 1", 12 INT2_A/G (out) "Accelerometer and gyroscope interrupt 2", 13 DEN_A/G (out) "Accelerometer and gyroscope data enable", 14 GND (power), 15 GND (power), 16 GND (power), 17 GND (power), 18 GND (power), 19 GND (power), 20 GND (power), 21 CAP (oc) "Connected to GND with ceramic capacitor", 22 VDD (power) "Power supply", 23 VDD (power) "Power supply", 24 C1 (oc) "Capacitor connection (C1 = 100 nF)"

## Microprocessor Supervisor 2.1В-5.5В
designator U?, comment UCC
UCC2946PW; Manufacturer: Texas Instruments; ComponentLink1Description: Chip&Dip; ComponentLink1URL: https://www.chipdip.ru/product/ucc2946pw; ComponentLink2Description: DataSheet; ComponentLink2URL: https://www.ti.com/lit/ds/slus247f/slus247f.pdf?ts=1602462267468&ref_url=https%253A%252F%252Fwww.google.com%252F; Part Number: UCC2946PW; Type: IC
footprint TSSOP-8
pins: 1 GND (power), 2 RTH (in), 3 ~{RES} (out), 4 RP (in), 5 ~{WDO} (out), 6 WP (in), 7 WDI (in), 8 VDD (power)

## MOSFET-N [BSS]
designator Q?, comment MOSFET-N
Drain-Source max voltage: 50 Vdc; gate-sourse max voltage: +-20 Vdc. Gate-Source threshhold: 1.5 Vdc; Part Number: BSS138LT1G; Manufacturer: ON Semiconductor; Type: Transistor; ComponentLink1Description: DataSheet; ComponentLink1URL: http://www.farnell.com/datasheets/2353875.pdf; ComponentLink2Description: Chip&Dip; ComponentLink2URL: https://www.chipdip.ru/product/bss138-onsemi
footprint SOT-23
pins: 1 Gate, 2 Source, 3 Drain

## MOSFET-N [CSD]
designator Q?, comment MOSFET-N
NexFET™ N-channel Power MOSFET designed to minimize losses in power conversion applications; Part Number: CSD19534Q5A; Manufacturer: Texas Instruments; Type: Transistor; ComponentLink1Description: DataSheet; ComponentLink1URL: http://www.ti.com/lit/ds/symlink/csd19534q5a.pdf; ComponentLink2Description: Chip&Dip; ComponentLink2URL: https://www.chipdip.ru/product/csd19534q5at
footprint VSON
pins: 1 Gate, 2 Drain, 3 Source

## MOSFET-N [FDV]
designator Q?, comment MOSFET-N
These N-Channel enhancement mode field effect transistors areproduced  using  Fairchild's  proprietary,  high  cell  density,  DMOStechnology.; Part Number: FDV303N; Manufacturer: Fairchild Semiconductor; Type: Transistor; ComponentLink1Description: DataSheet; ComponentLink1URL: https://static.chipdip.ru/lib/009/DOC001009115.pdf; ComponentLink2Description: Chip&Dip; ComponentLink2URL: https://www.chipdip.ru/product/fdv303n
footprint SOT-23
pins: 1 Gate, 2 Source, 3 Drain

## MOSFET-N [IRLML]
designator Q?, comment MOSFET-N
VDS 30V,  VGS Max ± 20V, RDS 27-40mΩ,; Part Number: IRLML0030TRPBF; Manufacturer: Infineon Technologies; Type: Transistor; ComponentLink1Description: DataSheet; ComponentLink1URL: https://static.chipdip.ru/lib/300/DOC000300382.pdf; ComponentLink2Description: Chip&Dip; ComponentLink2URL: https://www.chipdip.ru/product/irlml0030trpbf
footprint SOT-23
pins: 1 Gate, 2 Source, 3 Drain

## MOSFET-N [IRLR]
designator Q?, comment MOSFET-N
Trans MOSFET N-CH Si 55V 89A 3-Pin(2+Tab) DPAK Tube; Part Number: IRLR3705ZTRPBF; Manufacturer: International Rectifier; Type: Transistor; ComponentLink1Description: DataSheet; ComponentLink1URL: https://static.chipdip.ru/lib/292/DOC000292789.pdf; ComponentLink2Description: Chip&Dip; ComponentLink2URL: https://www.chipdip.ru/product/irlr3705zpbf
footprint D-Pak (TO-252AA)
pins: 1 Gate, 2 Drain, 3 Source

## MOSFET-P [IRLML]
designator Q?, comment MOSFET-P
P-Channel Power MOSFET 12V to 20V, Infineon; Part Number: IRLML2246TRPBF; Manufacturer: Infineon Technologies; Type: Transistor; ComponentLink1Description: Chip&Dip; ComponentLink1URL: https://www.chipdip.ru/product/irlml2246trpbf; ComponentLink2Description: DataSheet; ComponentLink2URL: http://www.farnell.com/datasheets/1911921.pdf
footprint SOT-23
pins: 1 Gate, 2 Source, 3 Drain

## MOSFET-P [SI2333]
designator Q?, comment MOSFET-P
12VDS TrenchFET® P-channel enhancement-mode Power MOSFET suitable for load switch and battery switch applications; Part Number: SI2333DDS-T1-GE3; Manufacturer: Vishay; Type: Transistor; ComponentLink1Description: Chip&Dip; ComponentLink1URL: https://www.chipdip.ru/product0/8001922966; ComponentLink2Description: DataSheet; ComponentLink2URL: http://www.farnell.com/datasheets/2188938.pdf
footprint SOT-23
pins: 1 Gate, 2 Source, 3 Drain

## NE555D
designator U?, comment NE555D Precision Timer
These devices are precision timing circuits capable of producing accurate time delays or oscillation. In the time-delay or mono-stable mode of operation, the timed interval is controlled by a single external resistor and capacitor network. In the a-stable mode of operation, the frequency and duty cycle can be controlled independently with two external resistors and a single external capacitor.; ComponentLink1Description: ChipDip; ComponentLink1URL: https://www.chipdip.ru/product/ne555d-2; ComponentLink2Description: DataSheet; ComponentLink2URL: https://static.chipdip.ru/lib/403/DOC014403360.pdf; Part Number: NE555D
footprint SOIC-8
pins: 1 GND, 2 TRIG, 3 OUT, 4 RESET, 5 CONT, 6 THRES, 7 DISCH, 8 Vcc

## NPN [BC817]
designator Q?, comment NPN
NPN general-purpose transistors; Part Number: BC817-40,215; Manufacturer: Nexperia; Type: Transistor; ComponentLink1Description: DataSheet; ComponentLink1URL: https://static.chipdip.ru/lib/156/DOC000156781.pdf; ComponentLink2Description: Chip&Dip; ComponentLink2URL: https://www.chipdip.ru/product/bc817-40
footprint SOT-23
pins: 1, 2, 3

## NPN [DZT]
designator Q?, comment NPN
General Purpose NPN Transistors, Up to 1.5A, Diodes Inc; Part Number: DZT5551-13; Manufacturer: Diodes Incorporated; Type: Transistor; ComponentLink1Description: DataSheet; ComponentLink1URL: http://www.farnell.com/datasheets/1915891.pdf; ComponentLink2Description: Chip&Dip; ComponentLink2URL: https://www.chipdip.ru/product/dzt5551-13-gp-bjt-npn-160v-0.6a-4pin?from=suggest_product
footprint SOT-223
pins: 1, 2, 3

## NPN [PBS]
designator Q?, comment NPN
NPN low VCEsat transistor in a SOT223 plastic package; Part Number: PBSS4540Z,115; Manufacturer: Nexperia; Type: Transistor; ComponentLink1Description: DataSheet; ComponentLink1URL: https://static.chipdip.ru/lib/583/DOC001583057.pdf; ComponentLink2Description: Chip&Dip; ComponentLink2URL: https://www.chipdip.ru/product/pbss4540z.115
footprint SOT-223
pins: 1, 2, 3

## OpAmp [AD8605]
designator U?, comment OpAmp
Rail-to-rail input and output, single-supply amplifier; Part Number: AD8605ARTZ-REEL7; Manufacturer: Analog Devices; ComponentLink1Description: DataSheet; ComponentLink1URL: https://static.chipdip.ru/lib/310/DOC000310082.pdf; ComponentLink2Description: Chip&Dip; ComponentLink2URL: https://www.chipdip.ru/product/ad8605artz; Type: IC
footprint SOT-23-5
pins: 1 OUTPUT (out), 2 VCC- (power), 3 IN+ (in) "Offset Null", 4 IN- (in), 5 VCC+ (power)

## OpAmp [LM2]
designator U?, comment Comp
These devices consist of two independent, high-gain designed to operate from a single supply or split (26 V for LM2904) supply over a wide range of voltages.; Manufacturer: Texas Instruments; Part Number: LM2904D; ComponentLink1Description: ChipDip; ComponentLink1URL: https://www.chipdip.ru/product/lm2904d-3; ComponentLink2Description: Datasheet; ComponentLink2URL: https://static.chipdip.ru/lib/551/DOC001551706.pdf; Type: IC
footprint SOIC-8
part A pins: 1 OUT (out), 2 IN- (in), 3 IN+ (in)
part B pins: 5 IN+ (in), 6 IN- (in), 7 OUT (out)
part C pins: 4 GND (power), 8 VCC (power)

## OpAmp [LMV358]
designator U?, comment OpAmp
Low Voltage Operational Amplifiers; Part Number: LMV358IDR; Manufacturer: Texas Instruments; ComponentLink1Description: DataSheet; ComponentLink1URL: https://static.chipdip.ru/lib/321/DOC000321492.pdf; ComponentLink2Description: Chip&Dip; ComponentLink2URL: https://www.chipdip.ru/product/lmv358idr-pbf; Type: IC
footprint SOIC-8
pins: 1 1OUT (out) "Offset Null", 2 1IN- (in), 3 1IN+ (in), 4 GND (power), 5 2IN+ (in), 6 2IN- (in), 7 2OUT (out), 8 VCC (power)

## OpAmp [LMV821]
designator U?, comment OpAmp
A single low power precision Operational Amplifier intended for use in a wide range of applications; Part Number: LMV821M5/NOPB; Manufacturer: Texas Instruments; ComponentLink1Description: DataSheet; ComponentLink1URL: https://static.chipdip.ru/lib/235/DOC000235297.pdf; ComponentLink2Description: Chip&Dip; ComponentLink2URL: https://www.chipdip.ru/product/lmv821m5; Type: IC
footprint SOT-23-5
pins: 1 IN+ (in) "Offset Null", 2 VCC- (power), 3 IN- (in), 4 OUTPUT (out), 5 VCC+ (power)

## OpAmp [TL081]
designator U?, comment OpAmp
General Purpose J-FET Single Operational Amplifier; Part Number: TL081CDT; Manufacturer: STMicroelectronics; ComponentLink1Description: DataSheet; ComponentLink1URL: https://static.chipdip.ru/lib/205/DOC000205098.pdf; ComponentLink2Description: Chip&Dip; ComponentLink2URL: https://www.chipdip.ru/product/tl081cd; Type: IC
footprint SOIC-8
pins: 1 N1 (oc) "Offset Null", 2 IN- (in), 3 IN+ (in), 4 VCC- (power), 5 N2 (oc), 6 OUTPUT (out), 7 VCC+ (power)

## Optocoupler [4N25]
designator U?, comment Opt
The 4N25 is an industry standard single channel Phototransistor Coupler with base connection. The optocoupler consists of gallium arsenide infrared LED and a silicon NPN phototransistor.; Manufacturer: Vishay; Part Number: 4N25; ComponentLink1Description: DataSheet; ComponentLink1URL: https://static.chipdip.ru/lib/028/DOC001028582.pdf; ComponentLink2Description: Chip&Dip; ComponentLink2URL: https://www.chipdip.ru/product/4n25-vishay; Type: IC
footprint DIP6
pins: 1 A, 2 C, 4 E, 5 C, 6 B